# Altium footprint library fHDR15x2.PcbLib: 1 footprints
Each footprint in its own frame and in the unit in brackets; x right, y up, seen from the top. Pads: shape width x height; smd on the part's side, far side on the other; paste and mask are expansions set on the pad; w line width, h text height; cw(c..) or ccw(c..) is an arc to the next point about the centre after c.
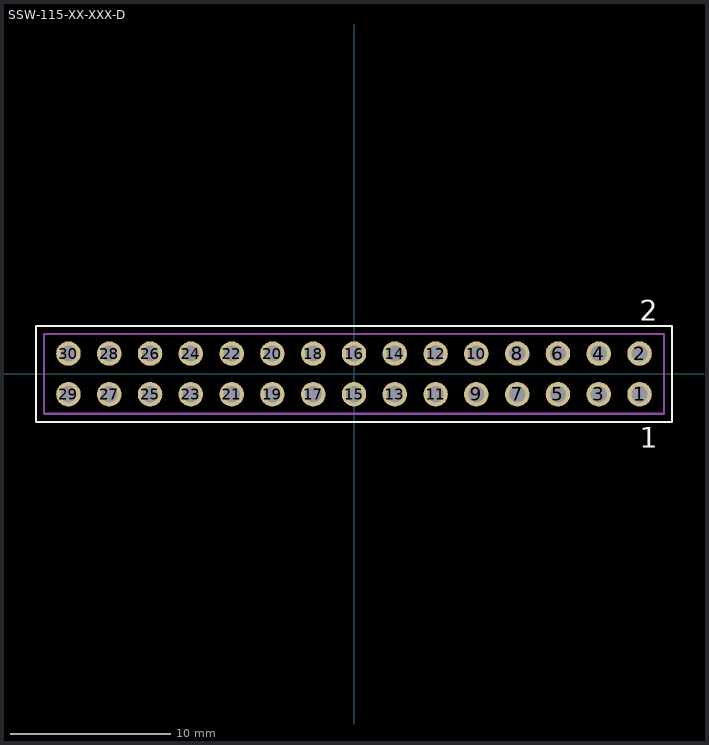
[diagram p0: the footprint, top view; thin cyan lines are the x and y axes]

## SSW-115-XX-XXX-D [mil]
pads (30):
  round 60 hole 40: 1(700,-50) 2(700,50) 3(600,-50) 4(600,50) 5(500,-50) 6(500,50) 7(400,-50) 8(400,50) 9(300,-50) 10(300,50) 11(200,-50) 12(200,50) 13(100,-50) 14(100,50) 15(0,-50) 16(0,50) 17(-100,-50) 18(-100,50) 19(-200,-50) 20(-200,50) 21(-300,-50) 22(-300,50) 23(-400,-50) 24(-400,50) 25(-500,-50) 26(-500,50) 27(-600,-50) 28(-600,50) 29(-700,-50) 30(-700,50)
Top Overlay:
  lines w5: -780,-117.5 780,-117.5 780,117.5 -780,117.5 -780,-117.5
  text "1" at 701.1,-180.28 h50.08
  text "2" at 700.56,130.1 h50.04
Mechanical 13:
  lines w5: -760,-97.5 760,-97.5 760,97.5 -760,97.5 -760,-97.5
3D body "female_header_a-bl254-dg-g30d.stp": height 335.15, standoff -125.48, extent -759.93,-98.42 749.92,98.43